# EAGLE library part MOD_WML-C69 (library akita)
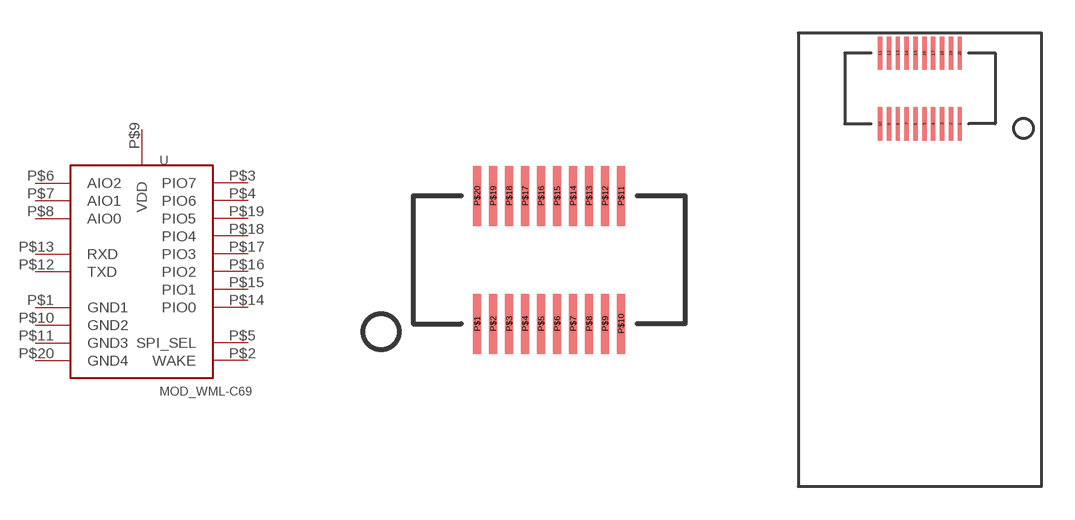
[diagram p61: symbol with the pads of CON_DF40C-20DS-0.4V; footprints CON_DF40C-20DS-0.4V, MOD_WML-C69]

Designator prefix -

## MOD_WML-C69  [CON_DF40C-20DS-0.4V]
P$1  GND1
P$2  WAKE
P$3  PIO7
P$4  PIO6
P$5  SPI_SEL
P$6  AIO2
P$7  AIO1
P$8  AIO0
P$9  VDD
P$10  GND2
P$11  GND3
P$12  TXD
P$13  RXD
P$14  PIO0
P$15  PIO1
P$16  PIO2
P$17  PIO3
P$18  PIO4
P$19  PIO5
P$20  GND4

## MOD_WML-C69MOD  [MOD_WML-C69]
1  GND1
2  PIO5
3  PIO4
4  PIO3
5  PIO2
6  PIO1
7  PIO0
8  RXD
9  TXD
10  GND2
11  GND3
12  VDD
13  AIO0
14  AIO1
15  AIO2
16  SPI_SEL
17  PIO6
18  PIO7
19  WAKE
20  GND4

## Footprint CON_DF40C-20DS-0.4V (pad centres in mm)
smd 0.2 x 1.5: P$1 -1.8,-1.6; P$2 -1.4,-1.6; P$3 -1,-1.6; P$4 -0.6,-1.6; P$5 -0.2,-1.6; P$6 0.2,-1.6; P$7 0.6,-1.6; P$8 1,-1.6; P$9 1.4,-1.6; P$10 1.8,-1.6; P$11 1.8,1.6; P$12 1.4,1.6; P$13 1,1.6; P$14 0.6,1.6; P$15 0.2,1.6; P$16 -0.2,1.6; P$17 -0.6,1.6; P$18 -1,1.6; P$19 -1.4,1.6; P$20 -1.8,1.6

## Footprint MOD_WML-C69 (pad centres in mm)
smd 0.2 x 1.5: 1 1.8,6.4; 2 1.4,6.4; 3 1,6.4; 4 0.6,6.4; 5 0.2,6.4; 6 -0.2,6.4; 7 -0.6,6.4; 8 -1,6.4; 9 -1.4,6.4; 10 -1.8,6.4; 11 -1.8,9.6; 12 -1.4,9.6; 13 -1,9.6; 14 -0.6,9.6; 15 -0.2,9.6; 16 0.2,9.6; 17 0.6,9.6; 18 1,9.6; 19 1.4,9.6; 20 1.8,9.6